# EAGLE library part ZSSC3123 (library Signal)
ZMDI ZSSC3123 Capacitive Sensor Signal Conditioner
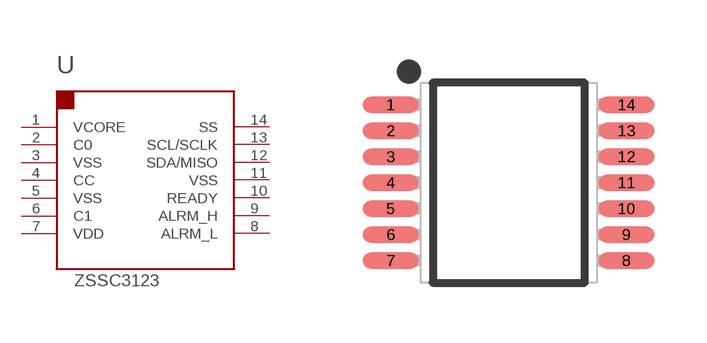
[diagram p0: symbol with the pads of TSSOP14; footprint TSSOP14]

Designator prefix U

## ZSSC3123 (PARTNO: 01-100450-00)  [TSSOP14]
1  VCORE  pas
2  C0  pas
3  VSS  pwr
4  CC  pas
5  VSS  pwr
6  C1  pas
7  VDD  pwr
8  ALRM_L  out
9  ALRM_H  out
10  READY  out
11  VSS  pwr
12  SDA/MISO
13  SCL/SCLK  in
14  SS  in

## Footprint TSSOP14 (pad centres in mm)
TSSOP, 14-Leads, Body 5.00x4.40mm, Pitch 0.65mm, IPC Medium Density
smd 1.4 x 0.4: 1 -2.95,1.95; 2 -2.95,1.3; 3 -2.95,0.65; 4 -2.95,0; 5 -2.95,-0.65; 6 -2.95,-1.3; 7 -2.95,-1.95; 8 2.95,-1.95; 9 2.95,-1.3; 10 2.95,-0.65; 11 2.95,0; 12 2.95,0.65; 13 2.95,1.3; 14 2.95,1.95